# Altium footprint library COM-14608.PCBLIB: 1 footprints
Each footprint in its own frame and in the unit in brackets; x right, y up, seen from the top. Pads: shape width x height; smd on the part's side, far side on the other; paste and mask are expansions set on the pad; w line width, h text height; cw(c..) or ccw(c..) is an arc to the next point about the centre after c.
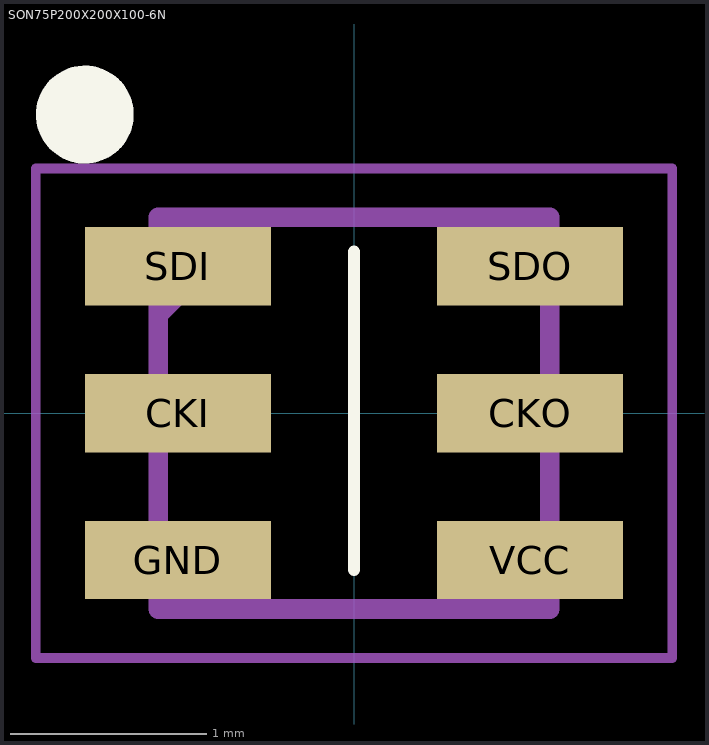
[diagram p0: the footprint, top view; thin cyan lines are the x and y axes]

## SON75P200X200X100-6N [mm]
pads (6):
  rect 0.95x0.4 smd: CKI(-0.9,0) CKO(0.9,0) GND(-0.9,-0.75) SDI(-0.9,0.75) SDO(0.9,0.75) VCC(0.9,-0.75)
Top Overlay:
  circle w0.25: c-1.375,1.525 r0.125
  lines w0.063: 0,-0.8 0,0.825
Mechanical 16:
  lines w0.05: -1.625,-1.25 -1.625,1.25 1.625,1.25 1.625,-1.25 -1.625,-1.25
  lines w0.1: -1,0.5 -0.5,1 ; -1,-1 -1,1 1,1 1,-1 -1,-1